# EAGLE library part 17W2_CONNECTOR (library main_library)
female board-mount straight through-hole 17W2 connector
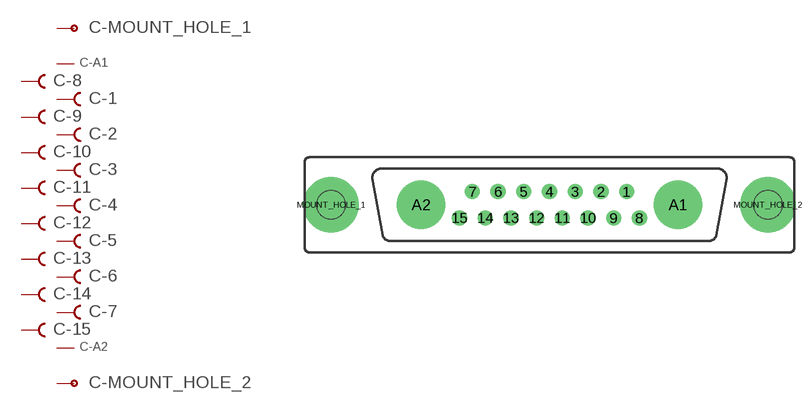
[diagram p2: symbol with the pads of 681M17W2203L001; footprint 681M17W2203L001]

Designator prefix C; gates -1=F -2=F -3=F -4=F -5=F -6=F -7=F -8=F -9=F -10=F -11=F -12=F -13=F -14=F -15=F -A1=POWER_PIN -A2=POWER_PIN -MOUNT_HOLE_1=MOUNT_HOLE -MOUNT_HOLE_2=MOUNT_HOLE

## 17W2_CONNECTOR  [681M17W2203L001]
1  -1:F  pas
2  -2:F  pas
3  -3:F  pas
4  -4:F  pas
5  -5:F  pas
6  -6:F  pas
7  -7:F  pas
8  -8:F  pas
9  -9:F  pas
10  -10:F  pas
11  -11:F  pas
12  -12:F  pas
13  -13:F  pas
14  -14:F  pas
15  -15:F  pas
A1  -A1:A  pwr
A2  -A2:A  pwr
MOUNT_HOLE_1  -MOUNT_HOLE_1:MOUNT_HOLE
MOUNT_HOLE_2  -MOUNT_HOLE_2:MOUNT_HOLE

## Footprint 681M17W2203L001 (pad centres in mm)
drill 1.092: 1 8.306,1.422; 2 5.537,1.422; 3 2.769,1.422; 4 0,1.422; 5 -2.769,1.422; 6 -5.537,1.422; 7 -8.306,1.422; 8 9.69,-1.422; 9 6.921,-1.422; 10 4.153,-1.422; 11 1.384,-1.422; 12 -1.384,-1.422; 13 -4.153,-1.422; 14 -6.921,-1.422; 15 -9.69,-1.422
drill 4.191: A1 13.843,0; A2 -13.843,0
drill 3.048 pad 5.969: MOUNT_HOLE_1 -23.52,0; MOUNT_HOLE_2 23.52,0
hole 3.073 at -23.52,0
hole 3.073 at 23.52,0